# Altium footprint library ESP32-S3FN8.PcbLib: 3 footprints
Each footprint in its own frame and in the unit in brackets; x right, y up, seen from the top. Pads: shape width x height; smd on the part's side, far side on the other; paste and mask are expansions set on the pad; w line width, h text height; cw(c..) or ccw(c..) is an arc to the next point about the centre after c.
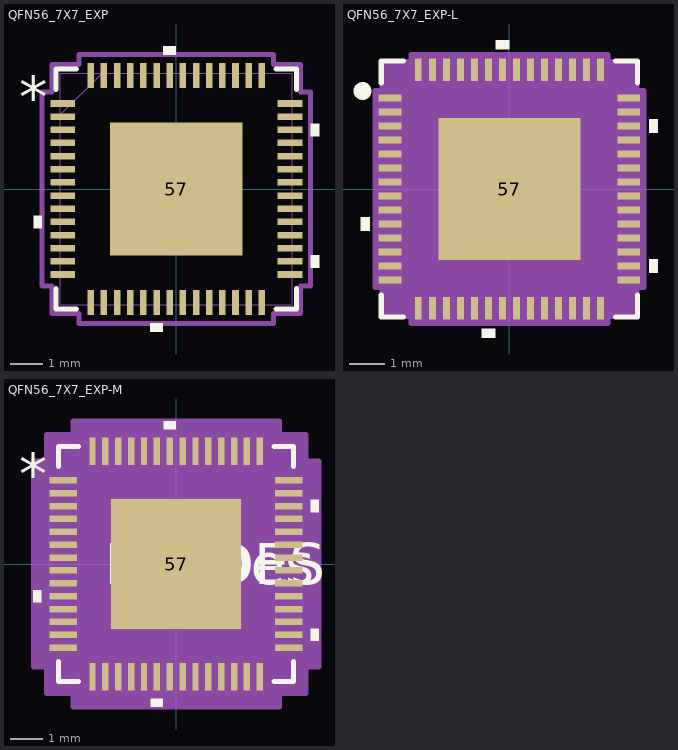
[diagram p0: the footprints below, top view; thin cyan lines are the x and y axes]

## QFN56_7X7_EXP [mm]
pads (57):
  rect 0.755x0.199 smd paste+0 mask+0: 1(-3.452,2.6) 2(-3.452,2.2) 3(-3.452,1.8) 4(-3.452,1.4) 5(-3.452,1) 6(-3.452,0.6) 7(-3.452,0.2) 8(-3.452,-0.2) 9(-3.452,-0.6) 10(-3.452,-1) 11(-3.452,-1.4) 12(-3.452,-1.8) 13(-3.452,-2.2) 14(-3.452,-2.6) 29(3.452,-2.6) 30(3.452,-2.2) 31(3.452,-1.8) 32(3.452,-1.4) 33(3.452,-1) 34(3.452,-0.6) 35(3.452,-0.2) 36(3.452,0.2) 37(3.452,0.6) 38(3.452,1) 39(3.452,1.4) 40(3.452,1.8) 41(3.452,2.2) 42(3.452,2.6)
  rect 0.199x0.755 smd paste+0 mask+0: 15(-2.6,-3.452) 16(-2.2,-3.452) 17(-1.8,-3.452) 18(-1.4,-3.452) 19(-1,-3.452) 20(-0.6,-3.452) 21(-0.2,-3.452) 22(0.2,-3.452) 23(0.6,-3.452) 24(1,-3.452) 25(1.4,-3.452) 26(1.8,-3.452) 27(2.2,-3.452) 28(2.6,-3.452) 43(2.6,3.452) 44(2.2,3.452) 45(1.8,3.452) 46(1.4,3.452) 47(1,3.452) 48(0.6,3.452) 49(0.2,3.452) 50(-0.2,3.452) 51(-0.6,3.452) 52(-1,3.452) 53(-1.4,3.452) 54(-1.8,3.452) 55(-2.2,3.452) 56(-2.6,3.452)
  rect 4.039x4.039 smd paste-2.019 mask+0: 57(0,0)
Top Overlay:
  region: -0.009,4.084 -0.39,4.084 -0.39,4.338 -0.009,4.338
  region: 4.084,1.99 4.338,1.99 4.338,1.609 4.084,1.609
  region: 4.084,-2.01 4.338,-2.01 4.338,-2.391 4.084,-2.391
  region: -0.409,-4.084 -0.79,-4.084 -0.79,-4.338 -0.409,-4.338
  region: -4.084,-0.81 -4.338,-0.81 -4.338,-1.191 -4.084,-1.191
  lines w0.152: -3.652,-3.032 -3.652,-3.652 -3.032,-3.652 ; -3.652,3.032 -3.652,3.652 -3.032,3.652 ; 3.032,-3.652 3.652,-3.652 3.652,-3.032 ; 3.032,3.652 3.652,3.652 3.652,3.032
  text "*" at -4.782,2.165 h1.27
Top Paste:
  region: 1.919,-0.773 0.773,-0.773 0.773,-1.919 1.919,-1.919
  region: 1.919,0.573 0.773,0.573 0.773,-0.573 1.919,-0.573
  region: 1.919,1.919 0.773,1.919 0.773,0.773 1.919,0.773
  region: 0.573,-0.773 -0.573,-0.773 -0.573,-1.919 0.573,-1.919
  region: 0.573,0.573 -0.573,0.573 -0.573,-0.573 0.573,-0.573
  region: 0.573,1.919 -0.573,1.919 -0.573,0.773 0.573,0.773
  region: -0.773,-0.773 -1.919,-0.773 -1.919,-1.919 -0.773,-1.919
  region: -0.773,0.573 -1.919,0.573 -1.919,-0.573 -0.773,-0.573
  region: -0.773,1.919 -1.919,1.919 -1.919,0.773 -0.773,0.773
Mechanical 13:
  lines w0.025: -3.525,2.255 -2.255,3.525 ; -3.525,-3.525 -3.525,3.525 3.525,3.525 3.525,-3.525 -3.525,-3.525 ; -3.525,-2.725 -3.525,-2.475 -3.525,-2.725 ; -3.525,-2.325 -3.525,-2.075 -3.525,-2.325 ; -3.525,-1.925 -3.525,-1.675 -3.525,-1.925 ; -3.525,-1.525 -3.525,-1.275 -3.525,-1.525 ; -3.525,-1.125 -3.525,-0.875 -3.525,-1.125 ; -3.525,-0.725 -3.525,-0.475 -3.525,-0.725 ; -3.525,-0.325 -3.525,-0.075 -3.525,-0.325 ; -3.525,0.075 -3.525,0.325 -3.525,0.075 ; -3.525,0.475 -3.525,0.725 -3.525,0.475 ; -3.525,0.875 -3.525,1.125 -3.525,0.875 ; -3.525,1.275 -3.525,1.525 -3.525,1.275 ; -3.525,1.675 -3.525,1.925 -3.525,1.675 ; -3.525,2.075 -3.525,2.325 -3.525,2.075 ; -3.525,2.475 -3.525,2.725 -3.525,2.475 ; -2.725,-3.525 -2.475,-3.525 -2.725,-3.525 ; -2.725,3.525 -2.475,3.525 -2.725,3.525 ; -2.325,-3.525 -2.075,-3.525 -2.325,-3.525 ; -2.325,3.525 -2.075,3.525 -2.325,3.525 ; -1.925,-3.525 -1.675,-3.525 -1.925,-3.525 ; -1.925,3.525 -1.675,3.525 -1.925,3.525 ; -1.525,-3.525 -1.275,-3.525 -1.525,-3.525 ; -1.525,3.525 -1.275,3.525 -1.525,3.525 ; -1.125,-3.525 -0.875,-3.525 -1.125,-3.525 ; -1.125,3.525 -0.875,3.525 -1.125,3.525 ; -0.725,-3.525 -0.475,-3.525 -0.725,-3.525 ; -0.725,3.525 -0.475,3.525 -0.725,3.525 ; -0.325,-3.525 -0.075,-3.525 -0.325,-3.525 ; -0.325,3.525 -0.075,3.525 -0.325,3.525 ; 0.075,-3.525 0.325,-3.525 0.075,-3.525 ; 0.075,3.525 0.325,3.525 0.075,3.525 ; 0.475,-3.525 0.725,-3.525 0.475,-3.525 ; 0.475,3.525 0.725,3.525 0.475,3.525 ; 0.875,-3.525 1.125,-3.525 0.875,-3.525 ; 0.875,3.525 1.125,3.525 0.875,3.525 ; 1.275,-3.525 1.525,-3.525 1.275,-3.525 ; 1.275,3.525 1.525,3.525 1.275,3.525 ; 1.675,-3.525 1.925,-3.525 1.675,-3.525 ; 1.675,3.525 1.925,3.525 1.675,3.525 ; 2.075,-3.525 2.325,-3.525 2.075,-3.525 ; 2.075,3.525 2.325,3.525 2.075,3.525 ; 2.475,-3.525 2.725,-3.525 2.475,-3.525 ; 2.475,3.525 2.725,3.525 2.475,3.525 ; 3.525,-2.725 3.525,-2.475 3.525,-2.725 ; 3.525,-2.325 3.525,-2.075 3.525,-2.325 ; 3.525,-1.925 3.525,-1.675 3.525,-1.925 ; 3.525,-1.525 3.525,-1.275 3.525,-1.525 ; 3.525,-1.125 3.525,-0.875 3.525,-1.125 ; 3.525,-0.725 3.525,-0.475 3.525,-0.725 ; 3.525,-0.325 3.525,-0.075 3.525,-0.325 ; 3.525,0.075 3.525,0.325 3.525,0.075 ; 3.525,0.475 3.525,0.725 3.525,0.475 ; 3.525,0.875 3.525,1.125 3.525,0.875 ; 3.525,1.275 3.525,1.525 3.525,1.275 ; 3.525,1.675 3.525,1.925 3.525,1.675 ; 3.525,2.075 3.525,2.325 3.525,2.075 ; 3.525,2.475 3.525,2.725 3.525,2.475
  text "*" at -4.953,2.032 h1.27
Mechanical 15:
  lines w0.152: -4.084,-2.954 -4.084,2.954 -3.779,2.954 -3.779,3.779 -2.954,3.779 -2.954,4.084 2.954,4.084 2.954,3.779 3.779,3.779 3.779,2.954 4.084,2.954 4.084,-2.954 3.779,-2.954 3.779,-3.779 2.954,-3.779 2.954,-4.084 -2.954,-4.084 -2.954,-3.779 -3.779,-3.779 -3.779,-2.954 -4.084,-2.954
3D body "QFN56_7X7_EXP.step": height 0.89, standoff 0, extent -3.525,-3.525 3.525,3.525

## QFN56_7X7_EXP-L [mm]
pads (57):
  rect 0.653x0.199 smd paste+0 mask+0: 1(-3.402,2.6) 2(-3.402,2.2) 3(-3.402,1.8) 4(-3.402,1.4) 5(-3.402,1) 6(-3.402,0.6) 7(-3.402,0.2) 8(-3.402,-0.2) 9(-3.402,-0.6) 10(-3.402,-1) 11(-3.402,-1.4) 12(-3.402,-1.8) 13(-3.402,-2.2) 14(-3.402,-2.6) 29(3.402,-2.6) 30(3.402,-2.2) 31(3.402,-1.8) 32(3.402,-1.4) 33(3.402,-1) 34(3.402,-0.6) 35(3.402,-0.2) 36(3.402,0.2) 37(3.402,0.6) 38(3.402,1) 39(3.402,1.4) 40(3.402,1.8) 41(3.402,2.2) 42(3.402,2.6)
  rect 0.199x0.653 smd paste+0 mask+0: 15(-2.6,-3.402) 16(-2.2,-3.402) 17(-1.8,-3.402) 18(-1.4,-3.402) 19(-1,-3.402) 20(-0.6,-3.402) 21(-0.2,-3.402) 22(0.2,-3.402) 23(0.6,-3.402) 24(1,-3.402) 25(1.4,-3.402) 26(1.8,-3.402) 27(2.2,-3.402) 28(2.6,-3.402) 43(2.6,3.402) 44(2.2,3.402) 45(1.8,3.402) 46(1.4,3.402) 47(1,3.402) 48(0.6,3.402) 49(0.2,3.402) 50(-0.2,3.402) 51(-0.6,3.402) 52(-1,3.402) 53(-1.4,3.402) 54(-1.8,3.402) 55(-2.2,3.402) 56(-2.6,3.402)
  rect 4.039x4.039 smd paste-2.019 mask+0: 57(0,0)
Top Overlay:
  circle w0.254: c-4.191,2.794 r0.127
  region: -3.982,-0.81 -4.236,-0.81 -4.236,-1.191 -3.982,-1.191
  region: -0.409,-3.982 -0.79,-3.982 -0.79,-4.236 -0.409,-4.236
  region: 3.982,-2.01 4.236,-2.01 4.236,-2.391 3.982,-2.391
  region: 3.982,1.99 4.236,1.99 4.236,1.609 3.982,1.609
  region: -0.009,3.982 -0.39,3.982 -0.39,4.236 -0.009,4.236
  lines w0.152: -3.652,-3.032 -3.652,-3.652 -3.032,-3.652 ; -3.652,3.032 -3.652,3.652 -3.032,3.652 ; 3.032,-3.652 3.652,-3.652 3.652,-3.032 ; 3.032,3.652 3.652,3.652 3.652,3.032
Top Paste:
  region: -0.773,1.919 -1.919,1.919 -1.919,0.773 -0.773,0.773
  region: -0.773,0.573 -1.919,0.573 -1.919,-0.573 -0.773,-0.573
  region: -0.773,-0.773 -1.919,-0.773 -1.919,-1.919 -0.773,-1.919
  region: 0.573,1.919 -0.573,1.919 -0.573,0.773 0.573,0.773
  region: 0.573,0.573 -0.573,0.573 -0.573,-0.573 0.573,-0.573
  region: 0.573,-0.773 -0.573,-0.773 -0.573,-1.919 0.573,-1.919
  region: 1.919,1.919 0.773,1.919 0.773,0.773 1.919,0.773
  region: 1.919,0.573 0.773,0.573 0.773,-0.573 1.919,-0.573
  region: 1.919,-0.773 0.773,-0.773 0.773,-1.919 1.919,-1.919
Mechanical 13:
  lines w0.025: -3.525,2.255 -2.255,3.525 ; -3.525,-3.525 3.525,-3.525 3.525,3.525 -3.525,3.525 -3.525,-3.525 ; -3.525,-2.725 -3.525,-2.475 -3.525,-2.725 ; -3.525,-2.325 -3.525,-2.075 -3.525,-2.325 ; -3.525,-1.925 -3.525,-1.675 -3.525,-1.925 ; -3.525,-1.525 -3.525,-1.275 -3.525,-1.525 ; -3.525,-1.125 -3.525,-0.875 -3.525,-1.125 ; -3.525,-0.725 -3.525,-0.475 -3.525,-0.725 ; -3.525,-0.325 -3.525,-0.075 -3.525,-0.325 ; -3.525,0.075 -3.525,0.325 -3.525,0.075 ; -3.525,0.475 -3.525,0.725 -3.525,0.475 ; -3.525,0.875 -3.525,1.125 -3.525,0.875 ; -3.525,1.275 -3.525,1.525 -3.525,1.275 ; -3.525,1.675 -3.525,1.925 -3.525,1.675 ; -3.525,2.075 -3.525,2.325 -3.525,2.075 ; -3.525,2.475 -3.525,2.725 -3.525,2.475 ; -2.725,-3.525 -2.475,-3.525 -2.725,-3.525 ; -2.725,3.525 -2.475,3.525 -2.725,3.525 ; -2.325,-3.525 -2.075,-3.525 -2.325,-3.525 ; -2.325,3.525 -2.075,3.525 -2.325,3.525 ; -1.925,-3.525 -1.675,-3.525 -1.925,-3.525 ; -1.925,3.525 -1.675,3.525 -1.925,3.525 ; -1.525,-3.525 -1.275,-3.525 -1.525,-3.525 ; -1.525,3.525 -1.275,3.525 -1.525,3.525 ; -1.125,-3.525 -0.875,-3.525 -1.125,-3.525 ; -1.125,3.525 -0.875,3.525 -1.125,3.525 ; -0.725,-3.525 -0.475,-3.525 -0.725,-3.525 ; -0.725,3.525 -0.475,3.525 -0.725,3.525 ; -0.325,-3.525 -0.075,-3.525 -0.325,-3.525 ; -0.325,3.525 -0.075,3.525 -0.325,3.525 ; 0.075,-3.525 0.325,-3.525 0.075,-3.525 ; 0.075,3.525 0.325,3.525 0.075,3.525 ; 0.475,-3.525 0.725,-3.525 0.475,-3.525 ; 0.475,3.525 0.725,3.525 0.475,3.525 ; 0.875,-3.525 1.125,-3.525 0.875,-3.525 ; 0.875,3.525 1.125,3.525 0.875,3.525 ; 1.275,-3.525 1.525,-3.525 1.275,-3.525 ; 1.275,3.525 1.525,3.525 1.275,3.525 ; 1.675,-3.525 1.925,-3.525 1.675,-3.525 ; 1.675,3.525 1.925,3.525 1.675,3.525 ; 2.075,-3.525 2.325,-3.525 2.075,-3.525 ; 2.075,3.525 2.325,3.525 2.075,3.525 ; 2.475,-3.525 2.725,-3.525 2.475,-3.525 ; 2.475,3.525 2.725,3.525 2.475,3.525 ; 3.525,-2.725 3.525,-2.475 3.525,-2.725 ; 3.525,-2.325 3.525,-2.075 3.525,-2.325 ; 3.525,-1.925 3.525,-1.675 3.525,-1.925 ; 3.525,-1.525 3.525,-1.275 3.525,-1.525 ; 3.525,-1.125 3.525,-0.875 3.525,-1.125 ; 3.525,-0.725 3.525,-0.475 3.525,-0.725 ; 3.525,-0.325 3.525,-0.075 3.525,-0.325 ; 3.525,0.075 3.525,0.325 3.525,0.075 ; 3.525,0.475 3.525,0.725 3.525,0.475 ; 3.525,0.875 3.525,1.125 3.525,0.875 ; 3.525,1.275 3.525,1.525 3.525,1.275 ; 3.525,1.675 3.525,1.925 3.525,1.675 ; 3.525,2.075 3.525,2.325 3.525,2.075 ; 3.525,2.475 3.525,2.725 3.525,2.475
  text "*" at -3.393,2.165 h1.27
Mechanical 15:
  region: -2.801,-3.627 -3.627,-3.627 -3.627,-2.801 -3.83,-2.801 -3.83,2.801 -3.627,2.801 -3.627,3.627 -2.801,3.627 -2.801,3.83 2.801,3.83 2.801,3.627 3.627,3.627 3.627,2.801 3.83,2.801 3.83,-2.801 3.627,-2.801 3.627,-3.627 2.801,-3.627 2.801,-3.83 -2.801,-3.83
  lines w0.152: -3.83,-2.801 -3.627,-2.801 -3.627,-3.627 -2.801,-3.627 -2.801,-3.83 2.801,-3.83 2.801,-3.627 3.627,-3.627 3.627,-2.801 3.83,-2.801 3.83,2.801 3.627,2.801 3.627,3.627 2.801,3.627 2.801,3.83 -2.801,3.83 -2.801,3.627 -3.627,3.627 -3.627,2.801 -3.83,2.801 -3.83,-2.801
3D body "QFN56_7X7_EXP.step": height 0.89, standoff 0, extent -3.525,-3.525 3.525,3.525

## QFN56_7X7_EXP-M [mm]
pads (57):
  rect 0.856x0.199 smd paste+0 mask+0: 1(-3.503,2.6) 2(-3.503,2.2) 3(-3.503,1.8) 4(-3.503,1.4) 5(-3.503,1) 6(-3.503,0.6) 7(-3.503,0.2) 8(-3.503,-0.2) 9(-3.503,-0.6) 10(-3.503,-1) 11(-3.503,-1.4) 12(-3.503,-1.8) 13(-3.503,-2.2) 14(-3.503,-2.6) 29(3.503,-2.6) 30(3.503,-2.2) 31(3.503,-1.8) 32(3.503,-1.4) 33(3.503,-1) 34(3.503,-0.6) 35(3.503,-0.2) 36(3.503,0.2) 37(3.503,0.6) 38(3.503,1) 39(3.503,1.4) 40(3.503,1.8) 41(3.503,2.2) 42(3.503,2.6)
  rect 0.199x0.856 smd paste+0 mask+0: 15(-2.6,-3.503) 16(-2.2,-3.503) 17(-1.8,-3.503) 18(-1.4,-3.503) 19(-1,-3.503) 20(-0.6,-3.503) 21(-0.2,-3.503) 22(0.2,-3.503) 23(0.6,-3.503) 24(1,-3.503) 25(1.4,-3.503) 26(1.8,-3.503) 27(2.2,-3.503) 28(2.6,-3.503) 43(2.6,3.503) 44(2.2,3.503) 45(1.8,3.503) 46(1.4,3.503) 47(1,3.503) 48(0.6,3.503) 49(0.2,3.503) 50(-0.2,3.503) 51(-0.6,3.503) 52(-1,3.503) 53(-1.4,3.503) 54(-1.8,3.503) 55(-2.2,3.503) 56(-2.6,3.503)
  rect 4.039x4.039 smd paste-2.019 mask+0: 57(0,0)
Top Overlay:
  region: -4.185,-0.81 -4.439,-0.81 -4.439,-1.191 -4.185,-1.191
  region: -0.409,-4.185 -0.79,-4.185 -0.79,-4.439 -0.409,-4.439
  region: 4.185,-2.01 4.439,-2.01 4.439,-2.391 4.185,-2.391
  region: 4.185,1.99 4.439,1.99 4.439,1.609 4.185,1.609
  region: -0.009,4.185 -0.39,4.185 -0.39,4.439 -0.009,4.439
  lines w0.152: -3.652,-3.032 -3.652,-3.652 -3.032,-3.652 ; -3.652,3.032 -3.652,3.652 -3.032,3.652 ; 3.032,-3.652 3.652,-3.652 3.652,-3.032 ; 3.032,3.652 3.652,3.652 3.652,3.032
  text "*" at -4.884,2.165 h1.27
  text "RefDes" at -1.905,-0.635 h1.27
  text "REFDES" at -2.222,-0.635 h1.27
Top Paste:
  region: -0.773,1.919 -1.919,1.919 -1.919,0.773 -0.773,0.773
  region: -0.773,0.573 -1.919,0.573 -1.919,-0.573 -0.773,-0.573
  region: -0.773,-0.773 -1.919,-0.773 -1.919,-1.919 -0.773,-1.919
  region: 0.573,1.919 -0.573,1.919 -0.573,0.773 0.573,0.773
  region: 0.573,0.573 -0.573,0.573 -0.573,-0.573 0.573,-0.573
  region: 0.573,-0.773 -0.573,-0.773 -0.573,-1.919 0.573,-1.919
  region: 1.919,1.919 0.773,1.919 0.773,0.773 1.919,0.773
  region: 1.919,0.573 0.773,0.573 0.773,-0.573 1.919,-0.573
  region: 1.919,-0.773 0.773,-0.773 0.773,-1.919 1.919,-1.919
Mechanical 13:
  lines w0.025: -3.525,2.255 -2.255,3.525 ; -3.525,-3.525 3.525,-3.525 3.525,3.525 -3.525,3.525 -3.525,-3.525 ; -3.525,-2.725 -3.525,-2.475 -3.525,-2.725 ; -3.525,-2.325 -3.525,-2.075 -3.525,-2.325 ; -3.525,-1.925 -3.525,-1.675 -3.525,-1.925 ; -3.525,-1.525 -3.525,-1.275 -3.525,-1.525 ; -3.525,-1.125 -3.525,-0.875 -3.525,-1.125 ; -3.525,-0.725 -3.525,-0.475 -3.525,-0.725 ; -3.525,-0.325 -3.525,-0.075 -3.525,-0.325 ; -3.525,0.075 -3.525,0.325 -3.525,0.075 ; -3.525,0.475 -3.525,0.725 -3.525,0.475 ; -3.525,0.875 -3.525,1.125 -3.525,0.875 ; -3.525,1.275 -3.525,1.525 -3.525,1.275 ; -3.525,1.675 -3.525,1.925 -3.525,1.675 ; -3.525,2.075 -3.525,2.325 -3.525,2.075 ; -3.525,2.475 -3.525,2.725 -3.525,2.475 ; -2.725,-3.525 -2.475,-3.525 -2.725,-3.525 ; -2.725,3.525 -2.475,3.525 -2.725,3.525 ; -2.325,-3.525 -2.075,-3.525 -2.325,-3.525 ; -2.325,3.525 -2.075,3.525 -2.325,3.525 ; -1.925,-3.525 -1.675,-3.525 -1.925,-3.525 ; -1.925,3.525 -1.675,3.525 -1.925,3.525 ; -1.525,-3.525 -1.275,-3.525 -1.525,-3.525 ; -1.525,3.525 -1.275,3.525 -1.525,3.525 ; -1.125,-3.525 -0.875,-3.525 -1.125,-3.525 ; -1.125,3.525 -0.875,3.525 -1.125,3.525 ; -0.725,-3.525 -0.475,-3.525 -0.725,-3.525 ; -0.725,3.525 -0.475,3.525 -0.725,3.525 ; -0.325,-3.525 -0.075,-3.525 -0.325,-3.525 ; -0.325,3.525 -0.075,3.525 -0.325,3.525 ; 0.075,-3.525 0.325,-3.525 0.075,-3.525 ; 0.075,3.525 0.325,3.525 0.075,3.525 ; 0.475,-3.525 0.725,-3.525 0.475,-3.525 ; 0.475,3.525 0.725,3.525 0.475,3.525 ; 0.875,-3.525 1.125,-3.525 0.875,-3.525 ; 0.875,3.525 1.125,3.525 0.875,3.525 ; 1.275,-3.525 1.525,-3.525 1.275,-3.525 ; 1.275,3.525 1.525,3.525 1.275,3.525 ; 1.675,-3.525 1.925,-3.525 1.675,-3.525 ; 1.675,3.525 1.925,3.525 1.675,3.525 ; 2.075,-3.525 2.325,-3.525 2.075,-3.525 ; 2.075,3.525 2.325,3.525 2.075,3.525 ; 2.475,-3.525 2.725,-3.525 2.475,-3.525 ; 2.475,3.525 2.725,3.525 2.475,3.525 ; 3.525,-2.725 3.525,-2.475 3.525,-2.725 ; 3.525,-2.325 3.525,-2.075 3.525,-2.325 ; 3.525,-1.925 3.525,-1.675 3.525,-1.925 ; 3.525,-1.525 3.525,-1.275 3.525,-1.525 ; 3.525,-1.125 3.525,-0.875 3.525,-1.125 ; 3.525,-0.725 3.525,-0.475 3.525,-0.725 ; 3.525,-0.325 3.525,-0.075 3.525,-0.325 ; 3.525,0.075 3.525,0.325 3.525,0.075 ; 3.525,0.475 3.525,0.725 3.525,0.475 ; 3.525,0.875 3.525,1.125 3.525,0.875 ; 3.525,1.275 3.525,1.525 3.525,1.275 ; 3.525,1.675 3.525,1.925 3.525,1.675 ; 3.525,2.075 3.525,2.325 3.525,2.075 ; 3.525,2.475 3.525,2.725 3.525,2.475
  text "*" at -3.393,2.165 h1.27
  text "RefDes2" at -2.222,-0.635 h1.27
Mechanical 15:
  region: -3.208,-4.033 -4.033,-4.033 -4.033,-3.208 -4.439,-3.208 -4.439,3.208 -4.033,3.208 -4.033,4.033 -3.208,4.033 -3.208,4.439 3.208,4.439 3.208,4.033 4.033,4.033 4.033,3.208 4.439,3.208 4.439,-3.208 4.033,-3.208 4.033,-4.033 3.208,-4.033 3.208,-4.439 -3.208,-4.439
  lines w0.152: -4.439,-3.208 -4.033,-3.208 -4.033,-4.033 -3.208,-4.033 -3.208,-4.439 3.208,-4.439 3.208,-4.033 4.033,-4.033 4.033,-3.208 4.439,-3.208 4.439,3.208 4.033,3.208 4.033,4.033 3.208,4.033 3.208,4.439 -3.208,4.439 -3.208,4.033 -4.033,4.033 -4.033,3.208 -4.439,3.208 -4.439,-3.208
3D body "QFN56_7X7_EXP.step": height 0.89, standoff 0, extent -3.525,-3.525 3.525,3.525